# Altium schematic symbol library SCH - MCU - NUVOTON - NUVOTON MINI58ZDE.SchLib: 1 symbol
Pins are listed as number, name and electrical type; pins without a type are passive.

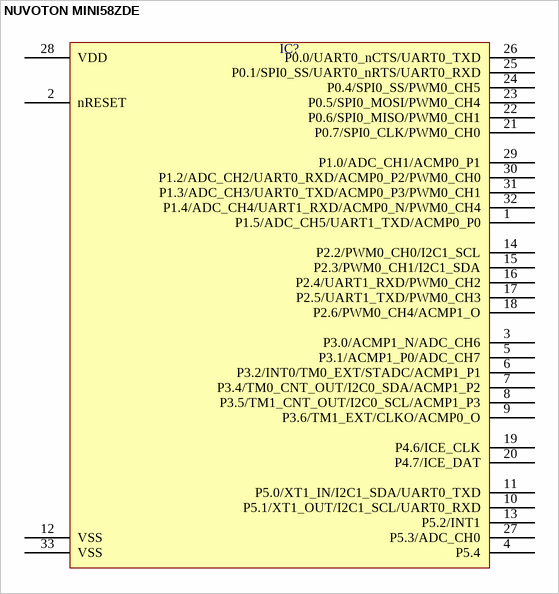
[diagram p0: symbol NUVOTON MINI58ZDE]

## NUVOTON MINI58ZDE
designator IC?  (value not drawn)
pins: 1 P1.5/ADC_CH5/UART1_TXD/ACMP0_P0, 2 nRESET, 3 P3.0/ACMP1_N/ADC_CH6, 4 P5.4, 5 P3.1/ACMP1_P0/ADC_CH7, 6 P3.2/INT0/TM0_EXT/STADC/ACMP1_P1, 7 P3.4/TM0_CNT_OUT/I2C0_SDA/ACMP1_P2, 8 P3.5/TM1_CNT_OUT/I2C0_SCL/ACMP1_P3, 9 P3.6/TM1_EXT/CLKO/ACMP0_O, 10 P5.1/XT1_OUT/I2C1_SCL/UART0_RXD, 11 P5.0/XT1_IN/I2C1_SDA/UART0_TXD, 12 VSS, 13 P5.2/INT1, 14 P2.2/PWM0_CH0/I2C1_SCL, 15 P2.3/PWM0_CH1/I2C1_SDA, 16 P2.4/UART1_RXD/PWM0_CH2, 17 P2.5/UART1_TXD/PWM0_CH3, 18 P2.6/PWM0_CH4/ACMP1_O, 19 P4.6/ICE_CLK, 20 P4.7/ICE_DAT, 21 P0.7/SPI0_CLK/PWM0_CH0, 22 P0.6/SPI0_MISO/PWM0_CH1, 23 P0.5/SPI0_MOSI/PWM0_CH4, 24 P0.4/SPI0_SS/PWM0_CH5, 25 P0.1/SPI0_SS/UART0_nRTS/UART0_RXD, 26 P0.0/UART0_nCTS/UART0_TXD, 27 P5.3/ADC_CH0, 28 VDD, 29 P1.0/ADC_CH1/ACMP0_P1, 30 P1.2/ADC_CH2/UART0_RXD/ACMP0_P2/PWM0_CH0, 31 P1.3/ADC_CH3/UART0_TXD/ACMP0_P3/PWM0_CH1, 32 P1.4/ADC_CH4/UART1_RXD/ACMP0_N/PWM0_CH4, 33 VSS